# Altium footprint library Modules.PcbLib: 2 footprints
Each footprint in its own frame and in the unit in brackets; x right, y up, seen from the top. Pads: shape width x height; smd on the part's side, far side on the other; paste and mask are expansions set on the pad; w line width, h text height; cw(c..) or ccw(c..) is an arc to the next point about the centre after c.
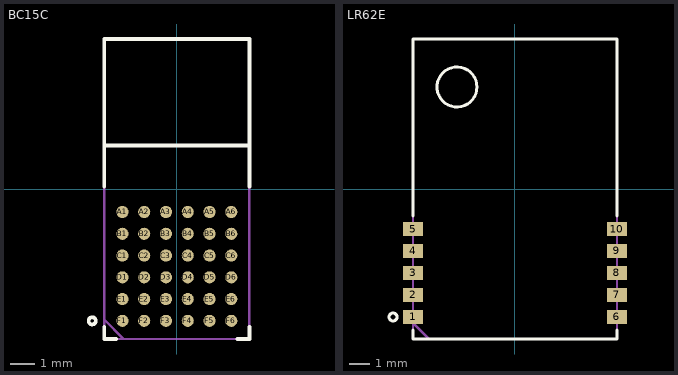
[diagram p0: the footprints below, top view; thin cyan lines are the x and y axes]

## BC15C [mm]
pads (36):
  round 0.5 smd: A1(-2.25,-0.95) A2(-1.35,-0.95) A3(-0.45,-0.95) A4(0.45,-0.95) A5(1.35,-0.95) A6(2.25,-0.95) B1(-2.25,-1.85) B2(-1.35,-1.85) B3(-0.45,-1.85) B4(0.45,-1.85) B5(1.35,-1.85) B6(2.25,-1.85) C1(-2.25,-2.75) C2(-1.35,-2.75) C3(-0.45,-2.75) C4(0.45,-2.75) C5(1.35,-2.75) C6(2.25,-2.75) D1(-2.25,-3.65) D2(-1.35,-3.65) D3(-0.45,-3.65) D4(0.45,-3.65) D5(1.35,-3.65) D6(2.25,-3.65) E1(-2.25,-4.55) E2(-1.35,-4.55) E3(-0.45,-4.55) E4(0.45,-4.55) E5(1.35,-4.55) E6(2.25,-4.55) F1(-2.25,-5.45) F2(-1.35,-5.45) F3(-0.45,-5.45) F4(0.45,-5.45) F5(1.35,-5.45) F6(2.25,-5.45)
Top Overlay:
  circle w0.15: c-3.5,-5.45 r0.15
  lines w0.15: -3,-5.7 -3,-6.2 -2.5,-6.2 ; -3,0.1 -3,6.2 3,6.2 3,0.1 ; -3,1.8 3,1.8 ; 2.5,-6.2 3,-6.2 3,-5.7
Mechanical 1:
  lines w0.1: -3,-5.4 -2.2,-6.2 ; -3,-6.2 -3,6.2 3,6.2 3,-6.2 -3,-6.2

## LR62E [mm]
pads (10):
  rect 1x0.7 smd: 1(-5.1,-6.4) 2(-5.1,-5.3) 3(-5.1,-4.2) 4(-5.1,-3.1) 5(-5.1,-2) 6(5.1,-6.4) 7(5.1,-5.3) 8(5.1,-4.2) 9(5.1,-3.1) 10(5.1,-2)
Top Overlay:
  circle w0.15: c-6.1,-6.4 r0.2
  circle w0.15: c-2.9,5.1 r1
  lines w0.15: -5.1,-7.05 -5.1,-7.5 5.1,-7.5 5.1,-7.05 ; -5.1,-1.35 -5.1,7.5 5.1,7.5 5.1,-1.35
Mechanical 1:
  lines w0.1: -5.1,-6.7 -4.3,-7.5 ; -5.1,-7.5 5.1,-7.5 5.1,7.5 -5.1,7.5 -5.1,-7.5